# EAGLE library part LSS-110-01-F-DV-A-TR (library con-samtec-ips1)
SensorTag Hermaphroditic Connector
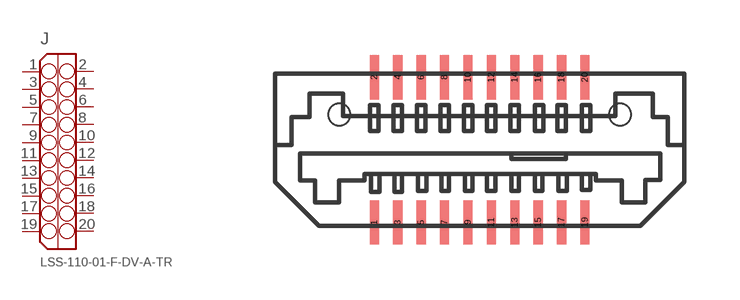
[diagram p24: symbol with the pads of LSS-110-01-F-DV-A-TR; footprint LSS-110-01-F-DV-A-TR]

Designator prefix J

## LSS-110-01-F-DV-A-TR (MFR: Samtec; MPN: LSS-110-01-F-DV-A-TR)  [LSS-110-01-F-DV-A-TR]
1  1
2  2
3  3
4  4
5  5
6  6
7  7
8  8
9  9
10  10
11  11
12  12
13  13
14  14
15  15
16  16
17  17
18  18
19  19
20  20

## Footprint LSS-110-01-F-DV-A-TR (pad centres in mm)
smd 0.25 x 1.2: 1 -2.857,-1.968; 2 -2.857,1.968; 3 -2.223,-1.968; 4 -2.223,1.968; 5 -1.587,-1.968; 6 -1.587,1.968; 7 -0.953,-1.968; 8 -0.953,1.968; 9 -0.318,-1.968; 10 -0.318,1.968; 11 0.318,-1.968; 12 0.318,1.968; 13 0.953,-1.968; 14 0.953,1.968; 15 1.587,-1.968; 16 1.587,1.968; 17 2.223,-1.968; 18 2.223,1.968; 19 2.857,-1.968; 20 2.857,1.968
hole 0.6 at 3.81,0.953
hole 0.6 at -3.81,0.953